# EAGLE library part A4950 (library Motor Components)
A4950 Motor Driver www.allegromicro.com/~/Media/Files/Datasheets/A4950-Datasheet.ashx
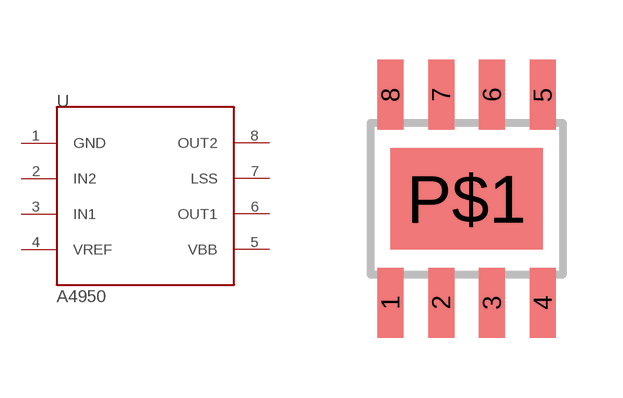
[diagram p0: symbol with the pads of SOIC8-PAD; footprint SOIC8-PAD]

Designator prefix -

## A4950  [SOIC8-PAD]
1  GND
2  IN2
3  IN1
4  VREF
5  VBB
6  OUT1
7  LSS
8  OUT2

## Footprint SOIC8-PAD (pad centres in mm)
Small Outline IC
smd 0.65 x 1.75: 1 -1.905,-2.6; 2 -0.635,-2.6; 3 0.635,-2.6; 4 1.905,-2.6; 5 1.905,2.6; 6 0.635,2.6; 7 -0.635,2.6; 8 -1.905,2.6
smd 3.81 x 2.54: P$1 0,0